# EAGLE library part R31JP-BREAKOUT (library custom)
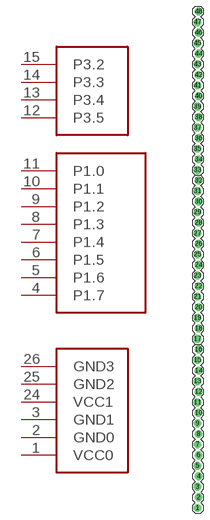
[diagram p10: symbol with the pads of R3JP-BREAKOUT; footprint R3JP-BREAKOUT]

Designator prefix -; gates G$1=R3JP-POWER G$2=R31JP-P1 G$3=R31JP-P3

## R31JP-BREAKOUT  [R3JP-BREAKOUT]
1  G$1:VCC0
2  G$1:GND0
3  G$1:GND1
4  G$2:P1.7
5  G$2:P1.6
6  G$2:P1.5
7  G$2:P1.4
8  G$2:P1.3
9  G$2:P1.2
10  G$2:P1.1
11  G$2:P1.0
12  G$3:P3.5
13  G$3:P3.4
14  G$3:P3.3
15  G$3:P3.2
24  G$1:VCC1
25  G$1:GND2
26  G$1:GND3

## Footprint R3JP-BREAKOUT (pad centres in mm)
drill 1.016 pad 1.88 round: 1 -0.127,0; 2 0.127,2.54; 3 -0.127,5.08; 4 0.127,7.62; 5 -0.127,10.16; 6 0.127,12.7; 7 -0.127,15.24; 8 0.127,17.78; 9 -0.127,20.32; 10 0.127,22.86; 11 -0.127,25.4; 12 0.127,27.94; 13 -0.127,30.48; 14 0.127,33.02; 15 -0.127,35.56; 16 0.127,38.1; 17 -0.127,40.64; 18 0.127,43.18; 19 -0.127,45.72; 20 0.127,48.26; 21 -0.127,50.8; 22 0.127,53.34; 23 -0.127,55.88; 24 0.127,58.42; 25 -0.127,60.96; 26 0.127,63.5; 27 -0.127,66.04; 28 0.127,68.58; 29 -0.127,71.12; 30 0.127,73.66; 31 -0.127,76.2; 32 0.127,78.74; 33 -0.127,81.28; 34 0.127,83.82; 35 -0.127,86.36; 36 0.127,88.9; 37 -0.127,91.44; 38 0.127,93.98; 39 -0.127,96.52; 40 0.127,99.06; 41 -0.127,101.6; 42 0.127,104.14; 43 -0.127,106.68; 44 0.127,109.22; 45 -0.127,111.76; 46 0.127,114.3; 47 -0.127,116.84; 48 0.127,119.38